# EAGLE library part MCP73223 (library mille-feuille)
Lithium Iron Phosphate (LiFePO4) Battery Charge Management Controller with Input Overvoltage Protection 2 cell
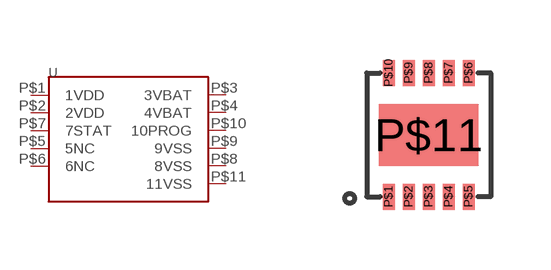
[diagram p21: symbol with the pads of 3X3DFN; footprint 3X3DFN]

Designator prefix U

## MCP73223  [3X3DFN]
P$1  1VDD
P$2  2VDD
P$3  3VBAT
P$4  4VBAT
P$5  5NC
P$6  6NC
P$7  7STAT
P$8  8VSS
P$9  9VSS
P$10  10PROG
P$11  11VSS

## Footprint 3X3DFN (pad centres in mm)
smd 0.3 x 0.65: P$1 -1,-1.55; P$2 -0.5,-1.55; P$3 0,-1.55; P$4 0.5,-1.55; P$5 1,-1.55; P$6 1,1.55; P$7 0.5,1.55; P$8 0,1.55; P$9 -0.5,1.55; P$10 -1,1.55
smd 2.48 x 1.55: P$11 0,0